# EAGLE library part TRS3122E (library Interface)
TRS3122E 1.8 V Low Power Dual RS-232 Transceiver. • Extended VCC operating nodes: 1.8 V, 3.3 V, or 5.0 V • Integrated Level-Shifting Functionality Eliminates • Enhanced ESD Protection on RIN Inputs and DOUT Outputs • Specified 1000-kbps Data Rate Datasheet <http://www.ti.com/lit/ds/symlink/trs3122e.pdf>
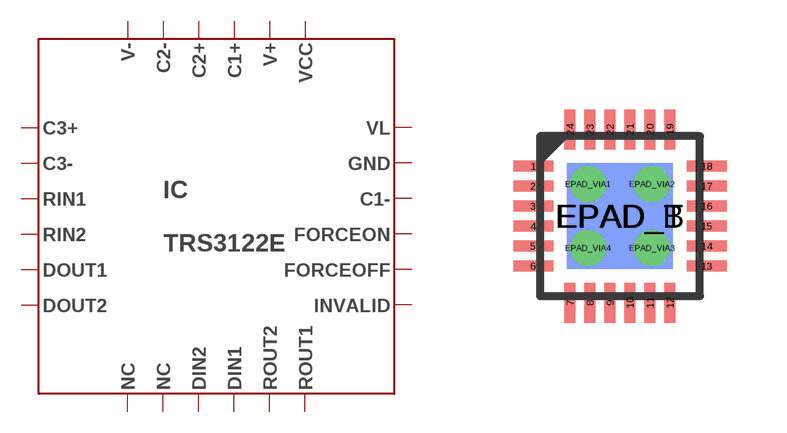
[diagram p10: symbol with the pads of QFN24; footprint QFN24]

Designator prefix IC

## TRS3122E  [QFN24]
1  P$1
2  P$2
3  P$3
4  P$4
5  P$5
6  P$6
7  P$7
8  P$8
9  P$9
10  P$10
11  P$11
12  P$12
13  P$13
14  P$14
15  P$15
16  P$16
17  P$17
18  P$18
19  P$19
20  P$20
21  P$21
22  P$22
23  P$23
24  P$24
EPAD_B  P$17
EPAD_T  P$17
EPAD_VIA1  P$17
EPAD_VIA2  P$17
EPAD_VIA3  P$17
EPAD_VIA4  P$17

## Footprint QFN24 (pad centres in mm)
QFN24 Auto generated by make-symbol-device-package-bsdl.ulp Rev. 44
smd 1 x 0.27: 1 -2.17,1.25; 2 -2.17,0.75; 3 -2.17,0.25; 4 -2.17,-0.25; 5 -2.17,-0.75; 6 -2.17,-1.25; 13 2.17,-1.25; 14 2.17,-0.75; 15 2.17,-0.25; 16 2.17,0.25; 17 2.17,0.75; 18 2.17,1.25
smd 0.27 x 1: 7 -1.25,-2.17; 8 -0.75,-2.17; 9 -0.25,-2.17; 10 0.25,-2.17; 11 0.75,-2.17; 12 1.25,-2.17; 19 1.25,2.17; 20 0.75,2.17; 21 0.25,2.17; 22 -0.25,2.17; 23 -0.75,2.17; 24 -1.25,2.17
smd 2.65 x 2.65 bottom: EPAD_B 0,0
smd 2.65 x 2.65: EPAD_T 0,0
drill 0.4: EPAD_VIA1 -0.8,0.8; EPAD_VIA2 0.8,0.8; EPAD_VIA3 0.8,-0.8; EPAD_VIA4 -0.8,-0.8